# Altium footprint library EPK.00.250.NTN.PCBLIB: 1 footprints
Each footprint in its own frame and in the unit in brackets; x right, y up, seen from the top. Pads: shape width x height; smd on the part's side, far side on the other; paste and mask are expansions set on the pad; w line width, h text height; cw(c..) or ccw(c..) is an arc to the next point about the centre after c.
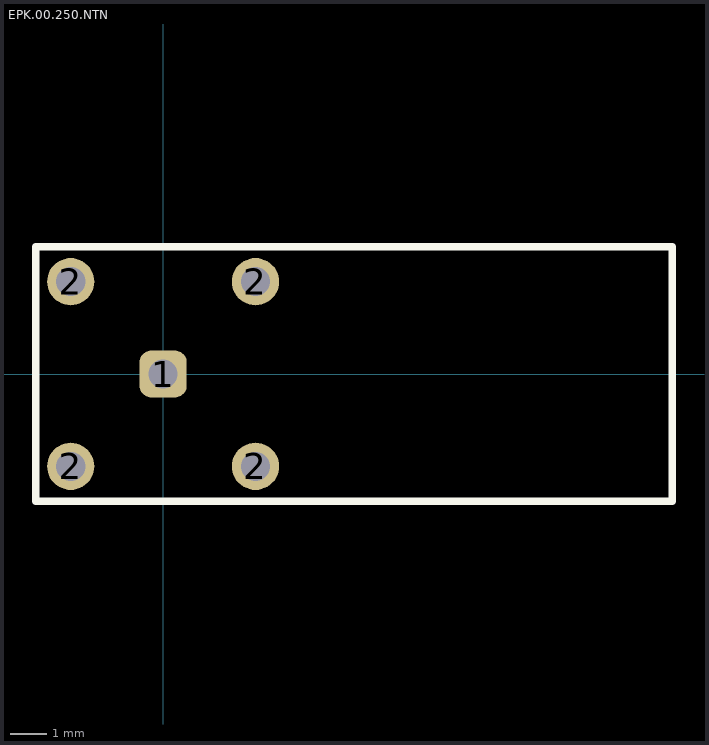
[diagram p0: the footprint, top view; thin cyan lines are the x and y axes]

## EPK.00.250.NTN [mil]
pads (5):
  rrect50% 51.18x51.18 hole 31.5: 1(0,0)
  round 51.18 hole 31.5: 2(-100,-100) 2(-100,100) 2(100,-100) 2(100,100)
Top Overlay:
  lines w7.87: -137.8,-137.8 -137.8,137.8 551.18,137.8 551.18,-137.8 -137.8,-137.8
3D body "EPK.00.250.NTN.stp": height 276.57, standoff -117.13, extent -137.8,-137.8 551.18,137.8